# Altium footprint library Mounting_Hole_M3.PcbLib: 1 footprints
Each footprint in its own frame and in the unit in brackets; x right, y up, seen from the top. Pads: shape width x height; smd on the part's side, far side on the other; paste and mask are expansions set on the pad; w line width, h text height; cw(c..) or ccw(c..) is an arc to the next point about the centre after c.
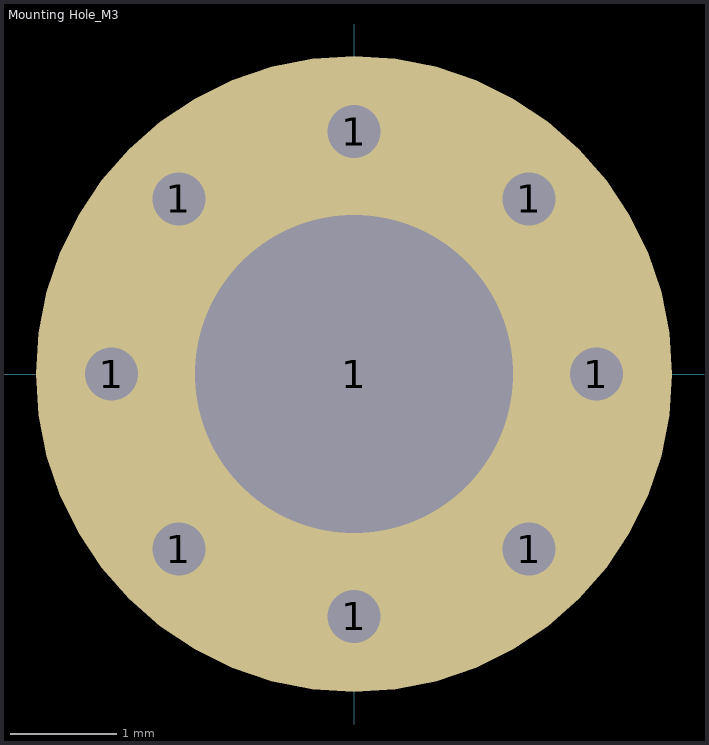
[diagram p0: the footprint, top view; thin cyan lines are the x and y axes]

## Mounting Hole_M3 [mm] "Mounting Hole_M3"
pads (9):
  round 0.8 hole 0.5: 1(-2.286,0) 1(-1.651,-1.651) 1(-1.651,1.651) 1(0,-2.286) 1(0,2.286) 1(1.651,-1.651) 1(1.651,1.651) 1(2.286,0)
  round 6 hole 3: 1(0,0)
Mechanical 1:
  text ".Designator" at 0,0.188 h1
Mechanical 15:
  text "+" at -1,-1.5 h3